# Altium footprint library NON SMD NON POLAR CAPACITOR.PcbLib: 41 footprints (part 2 of 3)
Each footprint in its own frame and in the unit in brackets; x right, y up, seen from the top. Pads: shape width x height; smd on the part's side, far side on the other; paste and mask are expansions set on the pad; w line width, h text height; cw(c..) or ccw(c..) is an arc to the next point about the centre after c.
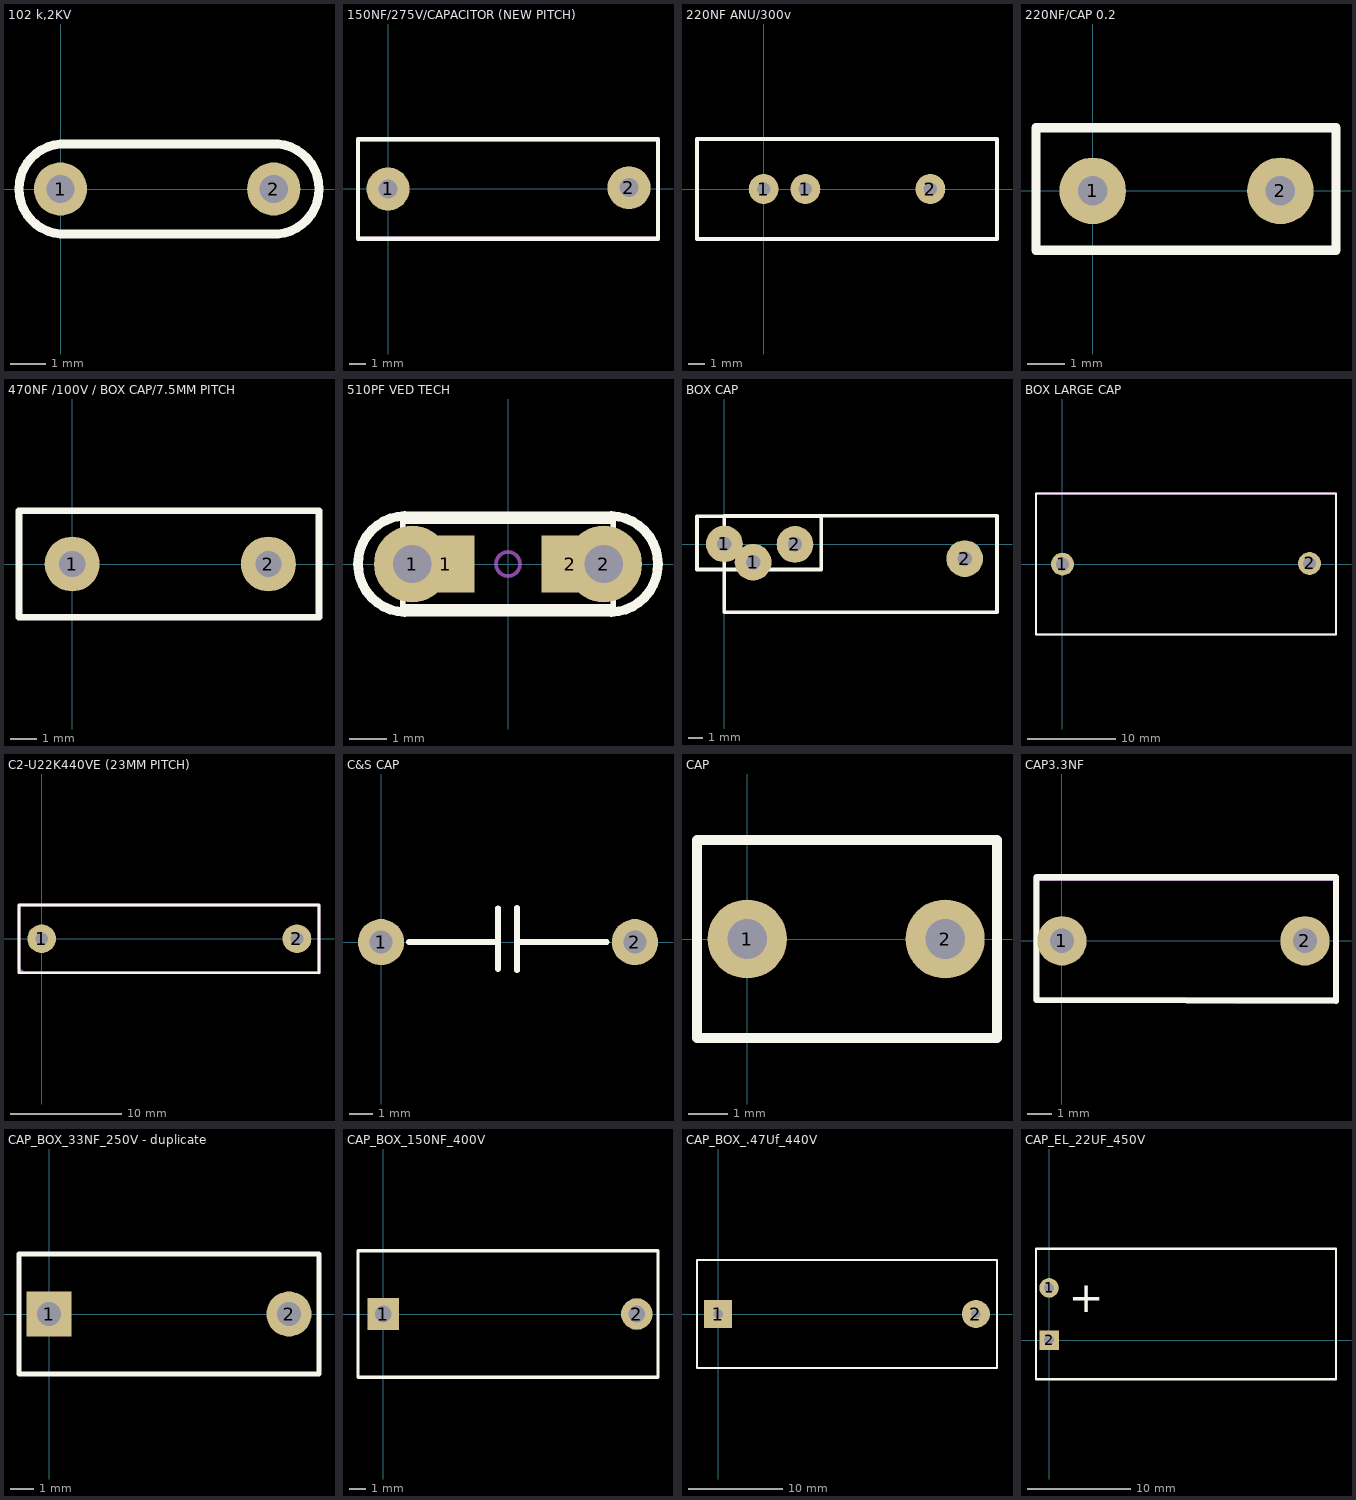
[diagram p1: the footprints below, top view; thin cyan lines are the x and y axes]

## 102 k,2KV [mil]
pads (2):
  round 59.03 hole 31.5: 1(0,0) 2(236.22,0)
Top Overlay:
  lines w10: 237.8,-50 0,-50 cw(c4.18,0) 0,50 237.8,50 ; 240.84,-50 ccw(c236.22,0) 240.84,50

## 150NF/275V/CAPACITOR (NEW PITCH) [mil]
pads (2):
  round 102 / inner round 62 / far side round 102 hole 45: 1(0,0) 2(570.87,3)
Top Overlay:
  lines w10: -71.2,-118 -71.2,118 639.6,118 639.6,-118 -71.2,-118
Mechanical 1:
  lines w10: -71.2,-114.8 -71.2,117.6 639.6,117.6 639.6,-118.08 -68.1,-117.9 -71.2,-114.8

## 220NF ANU/300v [mm]
pads (3):
  round 1.8 hole 0.8: 1(0,0) 1(2.5,0) 2(10,0)
Top Overlay:
  lines w0.254: -4,-3 14,-3 14,3 -4,3 -4,-3

## 220NF/CAP 0.2 [mm]
pads (2):
  round 1.8 hole 0.8: 1(0,0) 2(5.08,0)
Top Overlay:
  lines w0.254: -1.534,1.697 -1.534,-1.605 6.584,-1.605 6.584,1.707 -1.534,1.707

## 470NF /100V / BOX CAP/7.5MM PITCH [mil]
pads (2):
  round 82.67 hole 39.37: 1(0,0) 2(295.2,0)
Top Overlay:
  lines w10: -80,-80 -80,50 -80,80 371.2,80 371.2,-80 -80,-80

## 510PF VED TECH [mil]
pads (4):
  round 80 / inner round 62 / far side round 80 hole 40: 1(-100,0) 2(100,0)
  rect 60x60 smd: 1(-65,0) 2(65,0)
Top Overlay:
  lines w6: -110,-45 -110,45 110,45 110,-45 -110,-45
  lines w10: -100,-50 cw(c-106.25,0) -100,50 100,50 cw(c106.25,0) 100,-50 -100,-50
Mechanical 1:
  lines w6: -110,-45 -110,45 110,45 110,-45 -110,-45
Mechanical 3:
  lines w4: -12.5,0 cw(c0,0) 0,12.5 cw(c0,0) 12.5,0 cw(c0,0) 0,-12.5 cw(c0,0) -12.5,0

## BOX CAP [mil]
pads (4):
  round 102.37 hole 40.13: 1(0,0.8) 1(80,-50) 2(196.8,-0.4) 2(670,-40)
Top Overlay:
  lines w10: -76.4,-32.8 -76.4,78.4 270,78.4 270,-70.4 -76.4,-70.4 -76.4,-22.8 ; 0,-190 760,-190 760,80 0,80 0,50 0,-190

## BOX LARGE CAP [mil]
pads (2):
  round 102 / inner round 62 / far side round 102 hole 59.03: 1(0,0) 2(1102.37,3)
Top Overlay:
  lines w10: -118,-314.4 1220.4,-314.4 1220.4,315.6 -118,315.6 -118,-314.4
Mechanical 1:
  lines w10: -118,-314.4 1220.4,-314.4 1220.4,315.6 -118,315.6 -118,-314.4

## C2-U22K440VE (23MM PITCH) [mil]
pads (2):
  round 102 / inner round 62 / far side round 102 hole 45: 1(0,0) 2(905.52,0)
Top Overlay:
  lines w10: -80.4,-120.8 -80.4,119.2 983.6,119.2 983.6,-120.8 -80.4,-120.8
Mechanical 1:
  lines w10: -80.4,-105.6 -65.38,-120.62 983.6,-120.88 983.6,119.2 -80.4,119.2 -80.4,-105.6

## C&S CAP [mm]
pads (2):
  round 2 hole 1: 1(0,0) 2(11,0)
Top Overlay:
  lines w0.254: 1.21,0 5.04,0 ; 5.06,-1.16 5.06,1.47 ; 5.89,-1.22 5.89,1.49 ; 5.92,0 9.78,0

## CAP [mm]
pads (2):
  round 2 hole 1: 1(0,0) 2(5,0)
Top Overlay:
  lines w0.254: -1.27,-2.5 -1.27,2.5 6.31,2.5 6.31,-2.5 -1.27,-2.5

## CAP3.3NF [mil]
pads (2):
  round 79.9 hole 39.37: 1(0,0) 2(393.7,0)
Top Overlay:
  lines w10: -41,-96 444,-97 444,103 -41,103 -41,-78 -41,-96
Mechanical 1:
  lines w10: -42,-95 444,-97 444,102 -42,102 -42,-79 -42,-95

## CAP_BOX_33NF_250V - duplicate [mil]
pads (2):
  rect 74.8x74.8 / inner rect 63x63 / far side rect 74.8x74.8 hole 39.37: 1(0,0)
  round 74.8 / inner round 60 / far side round 74.8 hole 39.37: 2(400,0)
Top Overlay:
  lines w8: -50,-100 -50,-75 -50,100 450,100 450,-100 -50,-100

## CAP_BOX_150NF_400V [mil]
pads (2):
  rect 74.8x74.8 / inner rect 63x63 / far side rect 74.8x74.8 hole 39.37: 1(0,0)
  round 74.8 / inner round 60 / far side round 74.8 hole 39.37: 2(600,0)
Top Overlay:
  lines w8: -60,-150 650,-150 650,150 -60,150 -60,-150

## CAP_BOX_.47Uf_440V [mm]
pads (2):
  rect 3x3 hole 1: 1(0,0)
  round 3 hole 1: 2(27.5,0)
Top Overlay:
  lines w0.203: -2.25,-5.75 29.75,-5.75 29.75,5.75 -2.25,5.75 -2.25,-0.925 -2.25,-5.75

## CAP_EL_22UF_450V [mil]
pads (2):
  round 74.8 / inner round 60 / far side round 74.8 hole 39.37: 1(0,200)
  rect 74.8x74.8 / inner rect 63x63 / far side rect 74.8x74.8 hole 39.37: 2(0,0)
Top Overlay:
  lines w8: -50,-150 1100,-150 1100,350 -50,350 -50,-75 -50,-150
  text "+" at 75.13,106.87 h118.11